# EAGLE library part 754410 (library DISEÑOS_2)
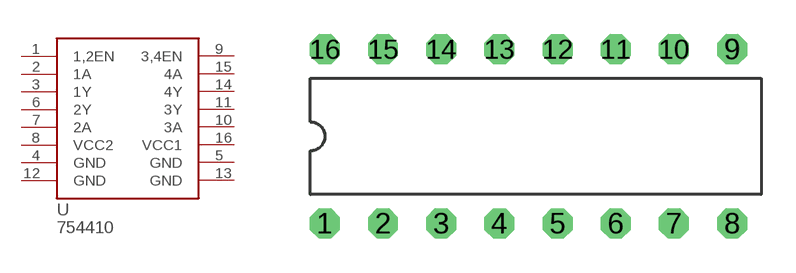
[diagram p0: symbol with the pads of DIL-16; footprint DIL-16]

Designator prefix -

## 754410  [DIL-16]
1  1,2EN  in
2  1A  in
3  1Y  out
4  GND  in
5  GND
6  2Y  out
7  2A  in
8  VCC2  in
9  3,4EN  in
10  3A  in
11  3Y  out
12  GND
13  GND
14  4Y  out
15  4A  in
16  VCC1

## Footprint DIL-16 (pad centres in mm)
drill 0.8 octagon: 1 -10.16,-3.81; 2 -7.62,-3.81; 3 -5.08,-3.81; 4 -2.54,-3.81; 5 0,-3.81; 6 2.54,-3.81; 7 5.08,-3.81; 8 7.62,-3.81; 9 7.62,3.81; 10 5.08,3.81; 11 2.54,3.81; 12 0,3.81; 13 -2.54,3.81; 14 -5.08,3.81; 15 -7.62,3.81; 16 -10.16,3.81